# Altium integrated library TI_Logic_Specialty_Logic.IntLib: 2504 symbols (part 51 of 81)
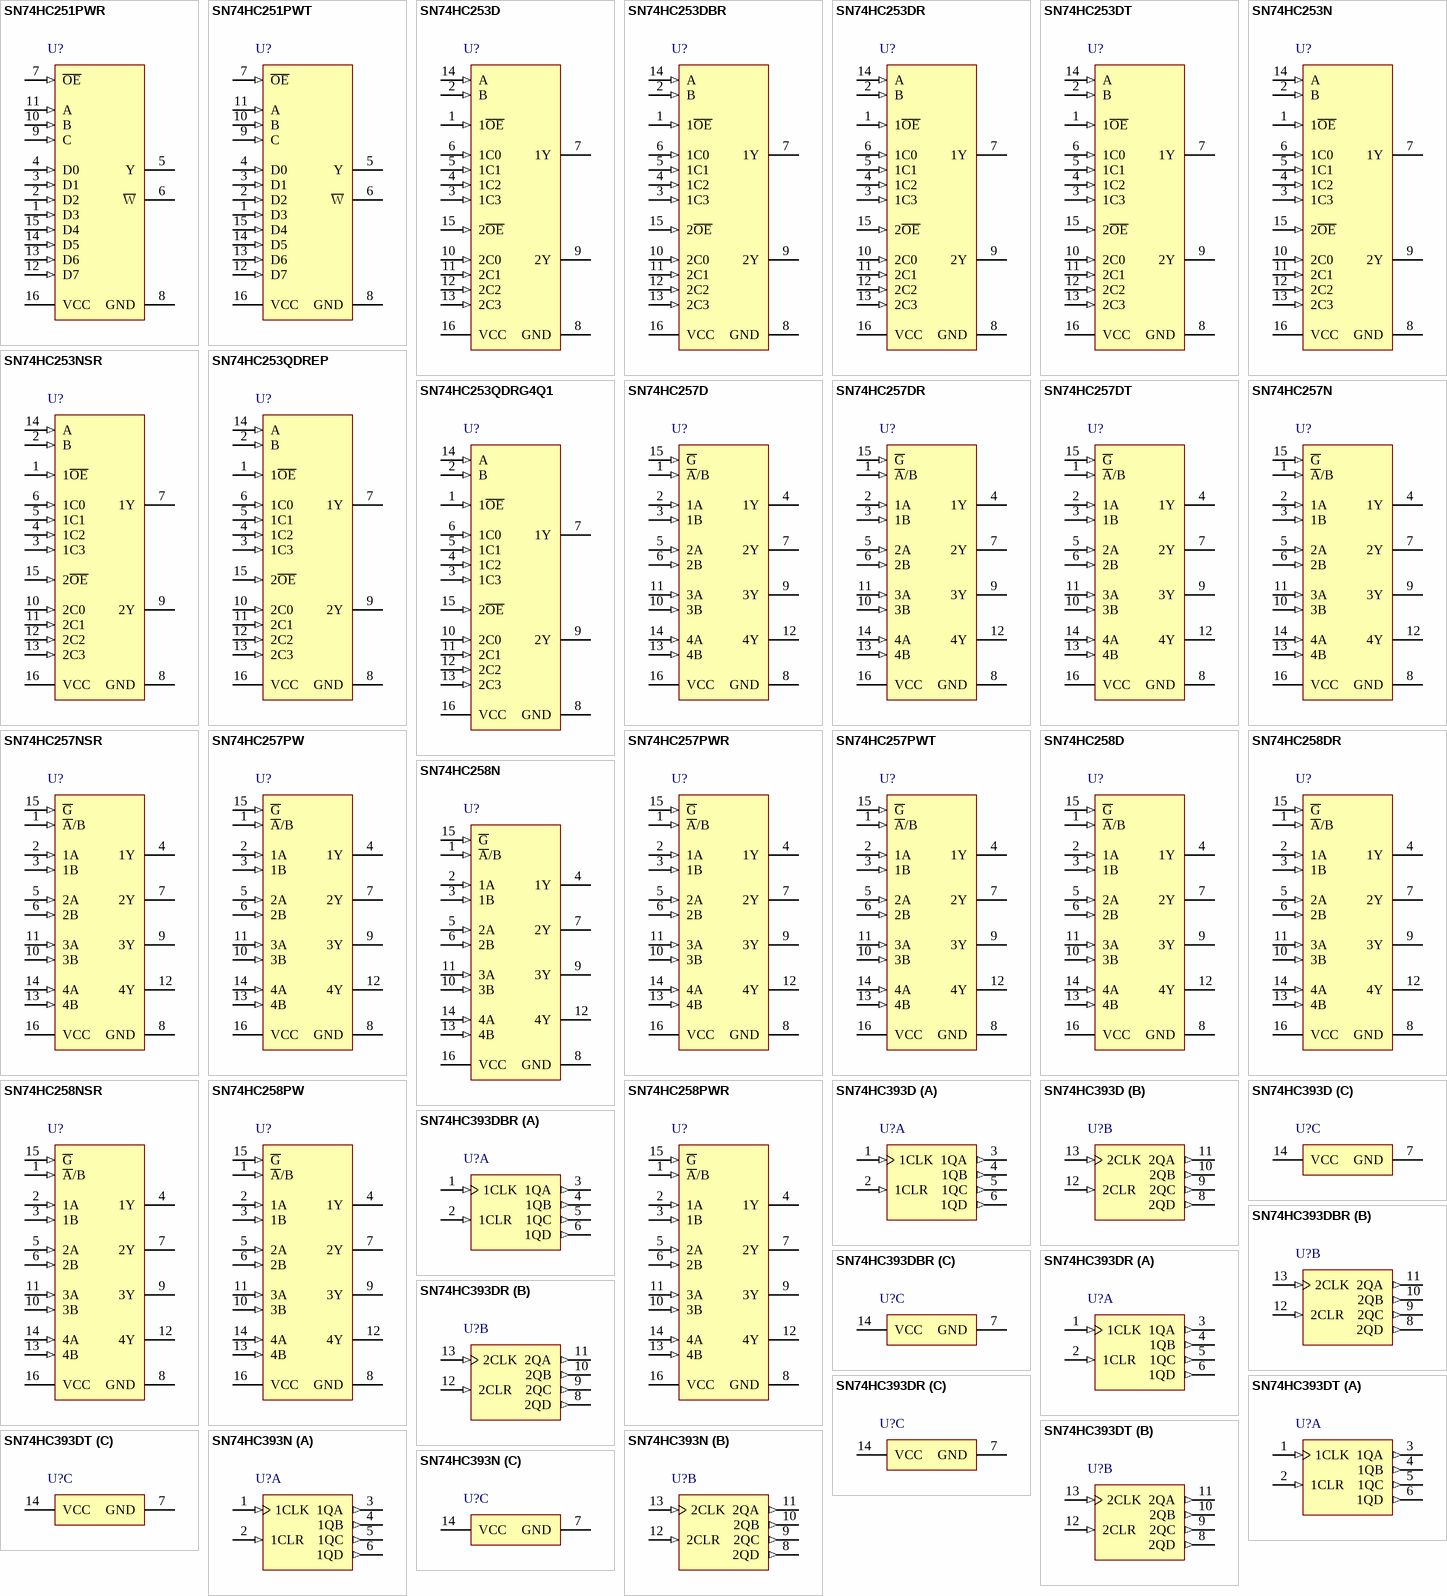
[diagram p154: symbols SN74HC251PWR to SN74HC393N]

## SN74HC393DR
designator U?
Dual 4-Bit Binary Counters, D0014A, LARGE T&R; Generic Part Number: SN74HC393; Manufacturer: Texas Instruments; PartNumber: SN74HC393DR; VCC(Min)(V): 2; VCC(Max)(V): 6; Output Type: CMOS; Inputs: 1; ICC @ Nom Voltage(Max)(mA): 0.08; Input Type: LVTTL/CMOS; Bits(#): 4; F @ Nom Voltage(Max)(Mhz): 28; Rating: Catalog; Technology Family: HC; Voltage(Nom)(V): 3.3,5; Schmitt Trigger: No; Output Drive (IOL/IOH)(Max)(mA): 5.2/-5.2; tpd @ Nom Voltage(Max)(ns): 62; DatasheetVersion: SCLS143D; PackageReference: D0014A; Supplier 1: Mouser; Supplier Part Number 1: 595-SN74HC393DR; Supplier 2: Digi-Key; Supplier Part Number 2: 296-14851-2-ND; Supplier 3: Digi-Key; Supplier Part Number 3: 296-14851-1-ND; Supplier 4: Digi-Key; Supplier Part Number 4: 296-14851-6-ND; Function: Counter; Operating Temperature Range(C): -40 to 85; Type: Binary; Code_JEDEC: MS-012; ComponentLink1Description: Manufacturer URL; ComponentLink1URL: http://www.ti.com/; ComponentLink2Description: Datasheet; ComponentLink2URL: http://www.ti.com/lit/ds/symlink/sn74hc393.pdf; ComponentLink3Description: Package Specification; ComponentLink3URL: http://www.ti.com/lit/ml/mpds177g/mpds177g.pdf
footprint D0014A_N (SOIC, 14-Leads, Body 8.75x4mm, Pitch 1.27mm, IPC Medium Density)
footprint D0014A_M (SOIC, 14-Leads, Body 8.75x4mm, Pitch 1.27mm, IPC Low Density)
footprint D0014A_L (SOIC, 14-Leads, Body 8.75x4mm, Pitch 1.27mm, IPC High Density)
part A pins: 1 1CLK (in), 2 1CLR (in), 3 1QA (out), 4 1QB (out), 5 1QC (out), 6 1QD (out)
part B pins: 8 2QD (out), 9 2QC (out), 10 2QB (out), 11 2QA (out), 12 2CLR (in), 13 2CLK (in)
part C pins: 7 GND (power), 14 VCC (power)

## SN74HC393DT
designator U?
Dual 4-Bit Binary Counters, D0014A, SMALL T&R; Generic Part Number: SN74HC393; Manufacturer: Texas Instruments; PartNumber: SN74HC393DT; VCC(Min)(V): 2; VCC(Max)(V): 6; Output Type: CMOS; Inputs: 1; ICC @ Nom Voltage(Max)(mA): 0.08; Input Type: LVTTL/CMOS; Bits(#): 4; F @ Nom Voltage(Max)(Mhz): 28; Rating: Catalog; Technology Family: HC; Voltage(Nom)(V): 3.3,5; Schmitt Trigger: No; Output Drive (IOL/IOH)(Max)(mA): 5.2/-5.2; tpd @ Nom Voltage(Max)(ns): 62; DatasheetVersion: SCLS143D; PackageReference: D0014A; Supplier 1: Mouser; Supplier Part Number 1: 595-SN74HC393DT; Supplier 2: Digi-Key; Supplier Part Number 2: SN74HC393DT-ND; Function: Counter; Operating Temperature Range(C): -40 to 85; Type: Binary; Code_JEDEC: MS-012; ComponentLink1Description: Manufacturer URL; ComponentLink1URL: http://www.ti.com/; ComponentLink2Description: Datasheet; ComponentLink2URL: http://www.ti.com/lit/ds/symlink/sn74hc393.pdf; ComponentLink3Description: Package Specification; ComponentLink3URL: http://www.ti.com/lit/ml/mpds177g/mpds177g.pdf
footprint D0014A_N (SOIC, 14-Leads, Body 8.75x4mm, Pitch 1.27mm, IPC Medium Density)
footprint D0014A_M (SOIC, 14-Leads, Body 8.75x4mm, Pitch 1.27mm, IPC Low Density)
footprint D0014A_L (SOIC, 14-Leads, Body 8.75x4mm, Pitch 1.27mm, IPC High Density)
part A pins: 1 1CLK (in), 2 1CLR (in), 3 1QA (out), 4 1QB (out), 5 1QC (out), 6 1QD (out)
part B pins: 8 2QD (out), 9 2QC (out), 10 2QB (out), 11 2QA (out), 12 2CLR (in), 13 2CLK (in)
part C pins: 7 GND (power), 14 VCC (power)

## SN74HC393N
designator U?
Dual 4-Bit Binary Counters, N0014A, TUBE; Generic Part Number: SN74HC393; Manufacturer: Texas Instruments; PartNumber: SN74HC393N; VCC(Min)(V): 2; VCC(Max)(V): 6; Output Type: CMOS; Inputs: 1; ICC @ Nom Voltage(Max)(mA): 0.08; Input Type: LVTTL/CMOS; Bits(#): 4; F @ Nom Voltage(Max)(Mhz): 28; Rating: Catalog; Technology Family: HC; Voltage(Nom)(V): 3.3,5; Schmitt Trigger: No; Output Drive (IOL/IOH)(Max)(mA): 5.2/-5.2; tpd @ Nom Voltage(Max)(ns): 62; DatasheetVersion: SCLS143D; PackageReference: N0014A; Supplier 1: Mouser; Supplier Part Number 1: 595-SN74HC393N; Supplier 2: Digi-Key; Supplier Part Number 2: 296-8319-5-ND; Function: Counter; Operating Temperature Range(C): -40 to 85; Type: Binary; Code_JEDEC: MS-001; ComponentLink1Description: Manufacturer URL; ComponentLink1URL: http://www.ti.com/; ComponentLink2Description: Datasheet; ComponentLink2URL: http://www.ti.com/lit/ds/symlink/sn74hc393.pdf; ComponentLink3Description: Package Specification; ComponentLink3URL: http://www.ti.com/lit/ml/mpdi002c/mpdi002c.pdf
footprint N0014A (DIP, 14-Leads, Body 19.7x6.6mm, Pitch 2.54mm)
part A pins: 1 1CLK (in), 2 1CLR (in), 3 1QA (out), 4 1QB (out), 5 1QC (out), 6 1QD (out)
part B pins: 8 2QD (out), 9 2QC (out), 10 2QB (out), 11 2QA (out), 12 2CLR (in), 13 2CLK (in)
part C pins: 7 GND (power), 14 VCC (power)

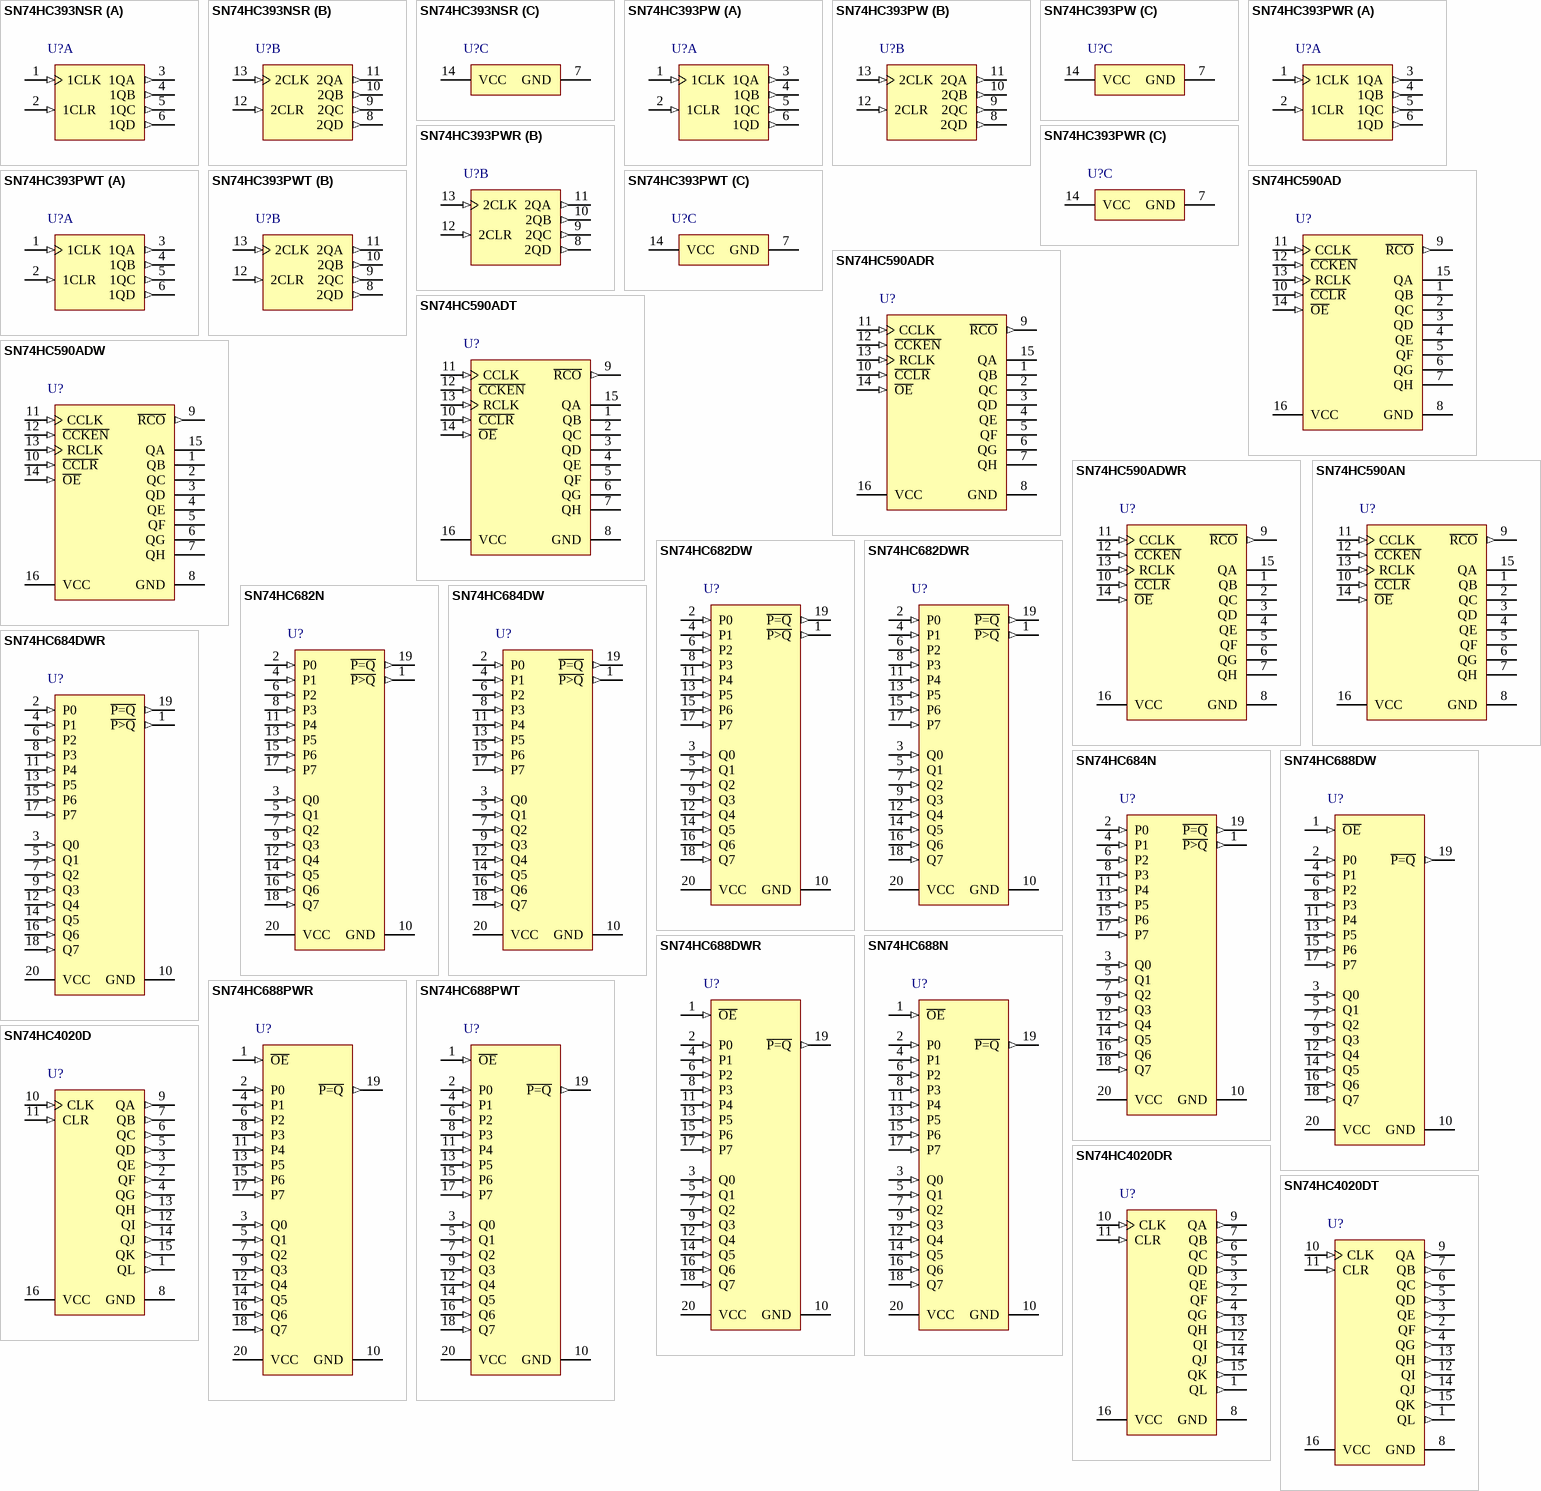
[diagram p64: symbols SN74HC393NSR to SN74HC4020DT]

## SN74HC393NSR
designator U?
Dual 4-Bit Binary Counters, NS0014A, LARGE T&R; Generic Part Number: SN74HC393; Manufacturer: Texas Instruments; PartNumber: SN74HC393NSR; VCC(Min)(V): 2; VCC(Max)(V): 6; Output Type: CMOS; Inputs: 1; ICC @ Nom Voltage(Max)(mA): 0.08; Input Type: LVTTL/CMOS; Bits(#): 4; F @ Nom Voltage(Max)(Mhz): 28; Rating: Catalog; Technology Family: HC; Voltage(Nom)(V): 3.3,5; Schmitt Trigger: No; Output Drive (IOL/IOH)(Max)(mA): 5.2/-5.2; tpd @ Nom Voltage(Max)(ns): 62; DatasheetVersion: SCLS143D; PackageReference: NS0014A; Supplier 1: Mouser; Supplier Part Number 1: 595-SN74HC393NSR; Supplier 2: Digi-Key; Supplier Part Number 2: 296-30014-2-ND; Supplier 3: Digi-Key; Supplier Part Number 3: 296-30014-1-ND; Supplier 4: Digi-Key; Supplier Part Number 4: 296-30014-6-ND; Function: Counter; Operating Temperature Range(C): -40 to 85; Type: Binary; ComponentLink1Description: Manufacturer URL; ComponentLink1URL: http://www.ti.com/; ComponentLink2Description: Datasheet; ComponentLink2URL: http://www.ti.com/lit/ds/symlink/sn74hc393.pdf; ComponentLink3Description: Package Specification; ComponentLink3URL: http://www.ti.com/lit/ml/msop002a/msop002a.pdf
footprint NS0014A_N (SOIC,14-Leads,Body 10.5x5.6mm,Pitch 1.27mm,IPC Medium Density)
footprint NS0014A_M (SOIC,14-Leads,Body 10.5x5.6mm,Pitch 1.27mm,IPC Low Density)
footprint NS0014A_L (SOIC,14-Leads,Body 10.5x5.6mm,Pitch 0.4mm,IPC High Density)
part A pins: 1 1CLK (in), 2 1CLR (in), 3 1QA (out), 4 1QB (out), 5 1QC (out), 6 1QD (out)
part B pins: 8 2QD (out), 9 2QC (out), 10 2QB (out), 11 2QA (out), 12 2CLR (in), 13 2CLK (in)
part C pins: 7 GND (power), 14 VCC (power)

## SN74HC393PW
designator U?
Dual 4-Bit Binary Counters, PW0014A, TUBE; Generic Part Number: SN74HC393; Manufacturer: Texas Instruments; PartNumber: SN74HC393PW; VCC(Min)(V): 2; VCC(Max)(V): 6; Output Type: CMOS; Inputs: 1; ICC @ Nom Voltage(Max)(mA): 0.08; Input Type: LVTTL/CMOS; Bits(#): 4; F @ Nom Voltage(Max)(Mhz): 28; Rating: Catalog; Technology Family: HC; Voltage(Nom)(V): 3.3,5; Schmitt Trigger: No; Output Drive (IOL/IOH)(Max)(mA): 5.2/-5.2; tpd @ Nom Voltage(Max)(ns): 62; DatasheetVersion: SCLS143D; PackageReference: PW0014A; Supplier 1: Mouser; Supplier Part Number 1: 595-SN74HC393PW; Supplier 2: Digi-Key; Supplier Part Number 2: 296-39205-5-ND; Function: Counter; Operating Temperature Range(C): -40 to 85; Type: Binary; Code_JEDEC: MO-153; ComponentLink1Description: Manufacturer URL; ComponentLink1URL: http://www.ti.com/; ComponentLink2Description: Datasheet; ComponentLink2URL: http://www.ti.com/lit/ds/symlink/sn74hc393.pdf; ComponentLink3Description: Package Specification; ComponentLink3URL: http://www.ti.com/lit/ml/mpds360/mpds360.pdf
footprint PW0014A_N (SOP, 14-Leads, Body 5.1x4.5mm, Pitch 0.65mm, IPC Medium Density)
footprint PW0014A_M (SOP, 14-Leads, Body 5.1x4.5mm, Pitch 0.65mm, IPC Low Density)
footprint PW0014A_L (SOP, 14-Leads, Body 5.1x4.5mm, Pitch 0.65mm, IPC High Density)
part A pins: 1 1CLK (in), 2 1CLR (in), 3 1QA (out), 4 1QB (out), 5 1QC (out), 6 1QD (out)
part B pins: 8 2QD (out), 9 2QC (out), 10 2QB (out), 11 2QA (out), 12 2CLR (in), 13 2CLK (in)
part C pins: 7 GND (power), 14 VCC (power)

## SN74HC393PWR
designator U?
Dual 4-Bit Binary Counters, PW0014A, LARGE T&R; Generic Part Number: SN74HC393; Manufacturer: Texas Instruments; PartNumber: SN74HC393PWR; VCC(Min)(V): 2; VCC(Max)(V): 6; Output Type: CMOS; Inputs: 1; ICC @ Nom Voltage(Max)(mA): 0.08; Input Type: LVTTL/CMOS; Bits(#): 4; F @ Nom Voltage(Max)(Mhz): 28; Rating: Catalog; Technology Family: HC; Voltage(Nom)(V): 3.3,5; Schmitt Trigger: No; Output Drive (IOL/IOH)(Max)(mA): 5.2/-5.2; tpd @ Nom Voltage(Max)(ns): 62; DatasheetVersion: SCLS143D; PackageReference: PW0014A; Supplier 1: Mouser; Supplier Part Number 1: 595-SN74HC393PWR; Supplier 2: Digi-Key; Supplier Part Number 2: 296-29252-2-ND; Supplier 3: Digi-Key; Supplier Part Number 3: 296-29252-1-ND; Supplier 4: Digi-Key; Supplier Part Number 4: 296-29252-6-ND; Function: Counter; Operating Temperature Range(C): -40 to 85; Type: Binary; Code_JEDEC: MO-153; ComponentLink1Description: Manufacturer URL; ComponentLink1URL: http://www.ti.com/; ComponentLink2Description: Datasheet; ComponentLink2URL: http://www.ti.com/lit/ds/symlink/sn74hc393.pdf; ComponentLink3Description: Package Specification; ComponentLink3URL: http://www.ti.com/lit/ml/mpds360/mpds360.pdf
footprint PW0014A_N (SOP, 14-Leads, Body 5.1x4.5mm, Pitch 0.65mm, IPC Medium Density)
footprint PW0014A_M (SOP, 14-Leads, Body 5.1x4.5mm, Pitch 0.65mm, IPC Low Density)
footprint PW0014A_L (SOP, 14-Leads, Body 5.1x4.5mm, Pitch 0.65mm, IPC High Density)
part A pins: 1 1CLK (in), 2 1CLR (in), 3 1QA (out), 4 1QB (out), 5 1QC (out), 6 1QD (out)
part B pins: 8 2QD (out), 9 2QC (out), 10 2QB (out), 11 2QA (out), 12 2CLR (in), 13 2CLK (in)
part C pins: 7 GND (power), 14 VCC (power)

## SN74HC393PWT
designator U?
Dual 4-Bit Binary Counters, PW0014A, SMALL T&R; Generic Part Number: SN74HC393; Manufacturer: Texas Instruments; PartNumber: SN74HC393PWT; VCC(Min)(V): 2; VCC(Max)(V): 6; Output Type: CMOS; Inputs: 1; ICC @ Nom Voltage(Max)(mA): 0.08; Input Type: LVTTL/CMOS; Bits(#): 4; F @ Nom Voltage(Max)(Mhz): 28; Rating: Catalog; Technology Family: HC; Voltage(Nom)(V): 3.3,5; Schmitt Trigger: No; Output Drive (IOL/IOH)(Max)(mA): 5.2/-5.2; tpd @ Nom Voltage(Max)(ns): 62; DatasheetVersion: SCLS143D; PackageReference: PW0014A; Supplier 1: Mouser; Supplier Part Number 1: 595-SN74HC393PWT; Supplier 2: Digi-Key; Supplier Part Number 2: 296-31809-2-ND; Supplier 3: Digi-Key; Supplier Part Number 3: 296-31809-1-ND; Supplier 4: Digi-Key; Supplier Part Number 4: 296-31809-6-ND; Function: Counter; Operating Temperature Range(C): -40 to 85; Type: Binary; Code_JEDEC: MO-153; ComponentLink1Description: Manufacturer URL; ComponentLink1URL: http://www.ti.com/; ComponentLink2Description: Datasheet; ComponentLink2URL: http://www.ti.com/lit/ds/symlink/sn74hc393.pdf; ComponentLink3Description: Package Specification; ComponentLink3URL: http://www.ti.com/lit/ml/mpds360/mpds360.pdf
footprint PW0014A_N (SOP, 14-Leads, Body 5.1x4.5mm, Pitch 0.65mm, IPC Medium Density)
footprint PW0014A_M (SOP, 14-Leads, Body 5.1x4.5mm, Pitch 0.65mm, IPC Low Density)
footprint PW0014A_L (SOP, 14-Leads, Body 5.1x4.5mm, Pitch 0.65mm, IPC High Density)
part A pins: 1 1CLK (in), 2 1CLR (in), 3 1QA (out), 4 1QB (out), 5 1QC (out), 6 1QD (out)
part B pins: 8 2QD (out), 9 2QC (out), 10 2QB (out), 11 2QA (out), 12 2CLR (in), 13 2CLK (in)
part C pins: 7 GND (power), 14 VCC (power)

## SN74HC590AD
designator U?
8-Bit Binary Counters With 3-State Output Registers, D0016A, TUBE; Generic Part Number: SN74HC590A; Manufacturer: Texas Instruments; PartNumber: SN74HC590AD; VCC(Min)(V): 2; VCC(Max)(V): 6; Output Type: CMOS; Inputs: 1; ICC @ Nom Voltage(Max)(mA): 0.08; Input Type: LVTTL/CMOS; Bits(#): 8; F @ Nom Voltage(Max)(Mhz): 28; Rating: Catalog; Technology Family: HC; Voltage(Nom)(V): 3.3,5; Schmitt Trigger: No; Output Drive (IOL/IOH)(Max)(mA): 7.8/-7.8; tpd @ Nom Voltage(Max)(ns): 38; DatasheetVersion: SCLS039F; PackageReference: D0016A; Supplier 1: Mouser; Supplier Part Number 1: 595-SN74HC590AD; Supplier 2: Digi-Key; Supplier Part Number 2: 296-8340-5-ND; Function: Counter; Operating Temperature Range(C): -40 to 85; Type: Binary; Code_JEDEC: MS-012 variation AC; ComponentLink1Description: Manufacturer URL; ComponentLink1URL: http://www.ti.com/; ComponentLink2Description: Datasheet; ComponentLink2URL: http://www.ti.com/lit/ds/symlink/sn74hc590a.pdf; ComponentLink3Description: Package Specification; ComponentLink3URL: http://www.ti.com/lit/ml/mpds178g/mpds178g.pdf
footprint D0016A_N (SOIC, 16-Leads, Body 10x4mm, Pitch 1.27mm, IPC Medium Density)
footprint D0016A_M (SOIC, 16-Leads, Body 10x4mm, Pitch 1.27mm, IPC Low Density)
footprint D0016A_L (SOIC, 16-Leads, Body 10x4mm, Pitch 1.27mm, IPC High Density)
pins: 1 QB (hiz), 2 QC (hiz), 3 QD (hiz), 4 QE (hiz), 5 QF (hiz), 6 QG (hiz), 7 QH (hiz), 8 GND (power), 9 ~{RCO} (out), 10 ~{CCLR} (in), 11 CCLK (in), 12 ~{CCKEN} (in), 13 RCLK (in), 14 ~{OE} (in), 15 QA (hiz), 16 VCC (power)

## SN74HC590ADR
designator U?
8-Bit Binary Counters With 3-State Output Registers, D0016A, LARGE T&R; Generic Part Number: SN74HC590A; Manufacturer: Texas Instruments; PartNumber: SN74HC590ADR; VCC(Min)(V): 2; VCC(Max)(V): 6; Output Type: CMOS; Inputs: 1; ICC @ Nom Voltage(Max)(mA): 0.08; Input Type: LVTTL/CMOS; Bits(#): 8; F @ Nom Voltage(Max)(Mhz): 28; Rating: Catalog; Technology Family: HC; Voltage(Nom)(V): 3.3,5; Schmitt Trigger: No; Output Drive (IOL/IOH)(Max)(mA): 7.8/-7.8; tpd @ Nom Voltage(Max)(ns): 38; DatasheetVersion: SCLS039F; PackageReference: D0016A; Supplier 1: Mouser; Supplier Part Number 1: 595-SN74HC590ADR; Supplier 2: Digi-Key; Supplier Part Number 2: 296-17132-2-ND; Supplier 3: Digi-Key; Supplier Part Number 3: 296-17132-1-ND; Supplier 4: Digi-Key; Supplier Part Number 4: 296-17132-6-ND; Function: Counter; Operating Temperature Range(C): -40 to 85; Type: Binary; Code_JEDEC: MS-012 variation AC; ComponentLink1Description: Manufacturer URL; ComponentLink1URL: http://www.ti.com/; ComponentLink2Description: Datasheet; ComponentLink2URL: http://www.ti.com/lit/ds/symlink/sn74hc590a.pdf; ComponentLink3Description: Package Specification; ComponentLink3URL: http://www.ti.com/lit/ml/mpds178g/mpds178g.pdf
footprint D0016A_N (SOIC, 16-Leads, Body 10x4mm, Pitch 1.27mm, IPC Medium Density)
footprint D0016A_M (SOIC, 16-Leads, Body 10x4mm, Pitch 1.27mm, IPC Low Density)
footprint D0016A_L (SOIC, 16-Leads, Body 10x4mm, Pitch 1.27mm, IPC High Density)
pins: 1 QB (hiz), 2 QC (hiz), 3 QD (hiz), 4 QE (hiz), 5 QF (hiz), 6 QG (hiz), 7 QH (hiz), 8 GND (power), 9 ~{RCO} (out), 10 ~{CCLR} (in), 11 CCLK (in), 12 ~{CCKEN} (in), 13 RCLK (in), 14 ~{OE} (in), 15 QA (hiz), 16 VCC (power)

## SN74HC590ADT
designator U?
8-Bit Binary Counters With 3-State Output Registers, D0016A, SMALL T&R; Generic Part Number: SN74HC590A; Manufacturer: Texas Instruments; PartNumber: SN74HC590ADT; VCC(Min)(V): 2; VCC(Max)(V): 6; Output Type: CMOS; Inputs: 1; ICC @ Nom Voltage(Max)(mA): 0.08; Input Type: LVTTL/CMOS; Bits(#): 8; F @ Nom Voltage(Max)(Mhz): 28; Rating: Catalog; Technology Family: HC; Voltage(Nom)(V): 3.3,5; Schmitt Trigger: No; Output Drive (IOL/IOH)(Max)(mA): 7.8/-7.8; tpd @ Nom Voltage(Max)(ns): 38; DatasheetVersion: SCLS039F; PackageReference: D0016A; Supplier 1: Mouser; Supplier Part Number 1: 595-SN74HC590ADT; Supplier 2: Digi-Key; Supplier Part Number 2: 296-31818-2-ND; Supplier 3: Digi-Key; Supplier Part Number 3: 296-31818-1-ND; Supplier 4: Digi-Key; Supplier Part Number 4: 296-31818-6-ND; Function: Counter; Operating Temperature Range(C): -40 to 85; Type: Binary; Code_JEDEC: MS-012 variation AC; ComponentLink1Description: Manufacturer URL; ComponentLink1URL: http://www.ti.com/; ComponentLink2Description: Datasheet; ComponentLink2URL: http://www.ti.com/lit/ds/symlink/sn74hc590a.pdf; ComponentLink3Description: Package Specification; ComponentLink3URL: http://www.ti.com/lit/ml/mpds178g/mpds178g.pdf
footprint D0016A_N (SOIC, 16-Leads, Body 10x4mm, Pitch 1.27mm, IPC Medium Density)
footprint D0016A_M (SOIC, 16-Leads, Body 10x4mm, Pitch 1.27mm, IPC Low Density)
footprint D0016A_L (SOIC, 16-Leads, Body 10x4mm, Pitch 1.27mm, IPC High Density)
pins: 1 QB (hiz), 2 QC (hiz), 3 QD (hiz), 4 QE (hiz), 5 QF (hiz), 6 QG (hiz), 7 QH (hiz), 8 GND (power), 9 ~{RCO} (out), 10 ~{CCLR} (in), 11 CCLK (in), 12 ~{CCKEN} (in), 13 RCLK (in), 14 ~{OE} (in), 15 QA (hiz), 16 VCC (power)

## SN74HC590ADW
designator U?
8-Bit Binary Counters With 3-State Output Registers, DW0016A, TUBE; Generic Part Number: SN74HC590A; Manufacturer: Texas Instruments; PartNumber: SN74HC590ADW; VCC(Min)(V): 2; VCC(Max)(V): 6; Output Type: CMOS; Inputs: 1; ICC @ Nom Voltage(Max)(mA): 0.08; Input Type: LVTTL/CMOS; Bits(#): 8; F @ Nom Voltage(Max)(Mhz): 28; Rating: Catalog; Technology Family: HC; Voltage(Nom)(V): 3.3,5; Schmitt Trigger: No; Output Drive (IOL/IOH)(Max)(mA): 7.8/-7.8; tpd @ Nom Voltage(Max)(ns): 38; DatasheetVersion: SCLS039F; PackageReference: DW0016A; Supplier 1: Mouser; Supplier Part Number 1: 595-SN74HC590ADW; Supplier 2: Digi-Key; Supplier Part Number 2: 296-8341-5-ND; Function: Counter; Operating Temperature Range(C): -40 to 85; Type: Binary; Code_JEDEC: MS-013 variation AA; ComponentLink1Description: Manufacturer URL; ComponentLink1URL: http://www.ti.com/; ComponentLink2Description: Datasheet; ComponentLink2URL: http://www.ti.com/lit/ds/symlink/sn74hc590a.pdf; ComponentLink3Description: Package Specification; ComponentLink3URL: http://www.ti.com/lit/ml/msoi003g/msoi003g.pdf
footprint DW0016A_N (SOIC, 16-Leads, Body 10.5x7.6mm, Pitch 1.27mm, IPC Medium Density)
footprint DW0016A_M (SOIC, 16-Leads, Body 10.5x7.6mm, Pitch 1.27mm, IPC Low Density)
footprint DW0016A_L (SOIC, 16-Leads, Body 10.5x7.6mm, Pitch 1.27mm, IPC High Density)
pins: 1 QB (hiz), 2 QC (hiz), 3 QD (hiz), 4 QE (hiz), 5 QF (hiz), 6 QG (hiz), 7 QH (hiz), 8 GND (power), 9 ~{RCO} (out), 10 ~{CCLR} (in), 11 CCLK (in), 12 ~{CCKEN} (in), 13 RCLK (in), 14 ~{OE} (in), 15 QA (hiz), 16 VCC (power)

## SN74HC590ADWR
designator U?
8-Bit Binary Counters With 3-State Output Registers, DW0016A, LARGE T&R; Generic Part Number: SN74HC590A; Manufacturer: Texas Instruments; PartNumber: SN74HC590ADWR; VCC(Min)(V): 2; VCC(Max)(V): 6; Output Type: CMOS; Inputs: 1; ICC @ Nom Voltage(Max)(mA): 0.08; Input Type: LVTTL/CMOS; Bits(#): 8; F @ Nom Voltage(Max)(Mhz): 28; Rating: Catalog; Technology Family: HC; Voltage(Nom)(V): 3.3,5; Schmitt Trigger: No; Output Drive (IOL/IOH)(Max)(mA): 7.8/-7.8; tpd @ Nom Voltage(Max)(ns): 38; DatasheetVersion: SCLS039F; PackageReference: DW0016A; Supplier 1: Mouser; Supplier Part Number 1: 595-SN74HC590ADWR; Supplier 2: Digi-Key; Supplier Part Number 2: 296-14856-2-ND; Supplier 3: Digi-Key; Supplier Part Number 3: 296-14856-1-ND; Supplier 4: Digi-Key; Supplier Part Number 4: 296-14856-6-ND; Function: Counter; Operating Temperature Range(C): -40 to 85; Type: Binary; Code_JEDEC: MS-013 variation AA; ComponentLink1Description: Manufacturer URL; ComponentLink1URL: http://www.ti.com/; ComponentLink2Description: Datasheet; ComponentLink2URL: http://www.ti.com/lit/ds/symlink/sn74hc590a.pdf; ComponentLink3Description: Package Specification; ComponentLink3URL: http://www.ti.com/lit/ml/msoi003g/msoi003g.pdf
footprint DW0016A_N (SOIC, 16-Leads, Body 10.5x7.6mm, Pitch 1.27mm, IPC Medium Density)
footprint DW0016A_M (SOIC, 16-Leads, Body 10.5x7.6mm, Pitch 1.27mm, IPC Low Density)
footprint DW0016A_L (SOIC, 16-Leads, Body 10.5x7.6mm, Pitch 1.27mm, IPC High Density)
pins: 1 QB (hiz), 2 QC (hiz), 3 QD (hiz), 4 QE (hiz), 5 QF (hiz), 6 QG (hiz), 7 QH (hiz), 8 GND (power), 9 ~{RCO} (out), 10 ~{CCLR} (in), 11 CCLK (in), 12 ~{CCKEN} (in), 13 RCLK (in), 14 ~{OE} (in), 15 QA (hiz), 16 VCC (power)

## SN74HC590AN
designator U?
8-Bit Binary Counters With 3-State Output Registers, N0016A, TUBE; Generic Part Number: SN74HC590A; Manufacturer: Texas Instruments; PartNumber: SN74HC590AN; VCC(Min)(V): 2; VCC(Max)(V): 6; Output Type: CMOS; Inputs: 1; ICC @ Nom Voltage(Max)(mA): 0.08; Input Type: LVTTL/CMOS; Bits(#): 8; F @ Nom Voltage(Max)(Mhz): 28; Rating: Catalog; Technology Family: HC; Voltage(Nom)(V): 3.3,5; Schmitt Trigger: No; Output Drive (IOL/IOH)(Max)(mA): 7.8/-7.8; tpd @ Nom Voltage(Max)(ns): 38; DatasheetVersion: SCLS039F; PackageReference: N0016A; Supplier 1: Mouser; Supplier Part Number 1: 595-SN74HC590AN; Supplier 2: Digi-Key; Supplier Part Number 2: 296-1599-5-ND; Function: Counter; Operating Temperature Range(C): -40 to 85; Type: Binary; Code_JEDEC: MS-001; ComponentLink1Description: Manufacturer URL; ComponentLink1URL: http://www.ti.com/; ComponentLink2Description: Datasheet; ComponentLink2URL: http://www.ti.com/lit/ds/symlink/sn74hc590a.pdf; ComponentLink3Description: Package Specification; ComponentLink3URL: http://www.ti.com/lit/ml/mpdi002c/mpdi002c.pdf
footprint N0016A (DIP, 16-Leads, Body 19.7x6.6mm, Pitch 2.54mm)
pins: 1 QB (hiz), 2 QC (hiz), 3 QD (hiz), 4 QE (hiz), 5 QF (hiz), 6 QG (hiz), 7 QH (hiz), 8 GND (power), 9 ~{RCO} (out), 10 ~{CCLR} (in), 11 CCLK (in), 12 ~{CCKEN} (in), 13 RCLK (in), 14 ~{OE} (in), 15 QA (hiz), 16 VCC (power)

## SN74HC682DW
designator U?
8-Bit Identity/Magnitude Comparators, DW0020A, TUBE; Generic Part Number: SN74HC682; Manufacturer: Texas Instruments; PartNumber: SN74HC682DW; VCC(Min)(V): 2; VCC(Max)(V): 6; Output Type: CMOS; ICC @ Nom Voltage(Max)(mA): 1.1; Bits(#): 8; F @ Nom Voltage(Max)(Mhz): 70; Rating: Catalog; Technology Family: HC; Schmitt Trigger: No; Output Drive (IOL/IOH)(Max)(mA): 5.2/-5.2; tpd @ Nom Voltage(Max)(ns): 58; DatasheetVersion: SCLS018D; PackageReference: DW0020A; Supplier 1: Mouser; Supplier Part Number 1: 595-SN74HC682DW; Supplier 2: Digi-Key; Supplier Part Number 2: 296-33943-5-ND; Input Type: CMOS; Operating Temperature Range(C): -40 to 85; Voltage(Nom)(V): 6; ComponentLink1Description: Manufacturer URL; ComponentLink1URL: http://www.ti.com/; ComponentLink2Description: Datasheet; ComponentLink2URL: http://www.ti.com/lit/ds/symlink/sn74hc682.pdf
footprint DW0020A_N (SOIC, 20-Leads, Body 13x7.6mm, Pitch 1.27mm, IPC Medium Density)
footprint DW0020A_M (SOIC, 20-Leads, Body 13x7.6mm, Pitch 1.27mm, IPC Low Density)
footprint DW0020A_L (SOIC, 20-Leads, Body 13x7.6mm, Pitch 1.27mm, IPC High Density)
pins: 1 ~{P>Q} (out), 2 P0 (in), 3 Q0 (in), 4 P1 (in), 5 Q1 (in), 6 P2 (in), 7 Q2 (in), 8 P3 (in), 9 Q3 (in), 10 GND (power), 11 P4 (in), 12 Q4 (in), 13 P5 (in), 14 Q5 (in), 15 P6 (in), 16 Q6 (in), 17 P7 (in), 18 Q7 (in), 19 ~{P=Q} (out), 20 VCC (power)

## SN74HC682DWR
designator U?
8-Bit Identity/Magnitude Comparators, DW0020A, LARGE T&R; Generic Part Number: SN74HC682; Manufacturer: Texas Instruments; PartNumber: SN74HC682DWR; VCC(Min)(V): 2; VCC(Max)(V): 6; Output Type: CMOS; ICC @ Nom Voltage(Max)(mA): 1.1; Bits(#): 8; F @ Nom Voltage(Max)(Mhz): 70; Rating: Catalog; Technology Family: HC; Schmitt Trigger: No; Output Drive (IOL/IOH)(Max)(mA): 5.2/-5.2; tpd @ Nom Voltage(Max)(ns): 58; DatasheetVersion: SCLS018D; PackageReference: DW0020A; Supplier 1: Mouser; Supplier Part Number 1: 595-SN74HC682DWR; Supplier 2: Digi-Key; Supplier Part Number 2: 296-8356-2-ND; Supplier 3: Digi-Key; Supplier Part Number 3: 296-8356-1-ND; Supplier 4: Digi-Key; Supplier Part Number 4: 296-8356-6-ND; Input Type: CMOS; Operating Temperature Range(C): -40 to 85; Voltage(Nom)(V): 6; ComponentLink1Description: Manufacturer URL; ComponentLink1URL: http://www.ti.com/; ComponentLink2Description: Datasheet; ComponentLink2URL: http://www.ti.com/lit/ds/symlink/sn74hc682.pdf
footprint DW0020A_N (SOIC, 20-Leads, Body 13x7.6mm, Pitch 1.27mm, IPC Medium Density)
footprint DW0020A_M (SOIC, 20-Leads, Body 13x7.6mm, Pitch 1.27mm, IPC Low Density)
footprint DW0020A_L (SOIC, 20-Leads, Body 13x7.6mm, Pitch 1.27mm, IPC High Density)
pins: 1 ~{P>Q} (out), 2 P0 (in), 3 Q0 (in), 4 P1 (in), 5 Q1 (in), 6 P2 (in), 7 Q2 (in), 8 P3 (in), 9 Q3 (in), 10 GND (power), 11 P4 (in), 12 Q4 (in), 13 P5 (in), 14 Q5 (in), 15 P6 (in), 16 Q6 (in), 17 P7 (in), 18 Q7 (in), 19 ~{P=Q} (out), 20 VCC (power)

## SN74HC682N
designator U?
8-Bit Identity/Magnitude Comparators, N0020A, TUBE; Generic Part Number: SN74HC682; Manufacturer: Texas Instruments; PartNumber: SN74HC682N; VCC(Min)(V): 2; VCC(Max)(V): 6; Output Type: CMOS; ICC @ Nom Voltage(Max)(mA): 1.1; Bits(#): 8; F @ Nom Voltage(Max)(Mhz): 70; Rating: Catalog; Technology Family: HC; Schmitt Trigger: No; Output Drive (IOL/IOH)(Max)(mA): 5.2/-5.2; tpd @ Nom Voltage(Max)(ns): 58; DatasheetVersion: SCLS018D; PackageReference: N0020A; Supplier 1: Mouser; Supplier Part Number 1: 595-SN74HC682N; Supplier 2: Digi-Key; Supplier Part Number 2: 296-8357-5-ND; Input Type: CMOS; Operating Temperature Range(C): -40 to 85; Voltage(Nom)(V): 6; ComponentLink1Description: Manufacturer URL; ComponentLink1URL: http://www.ti.com/; ComponentLink2Description: Datasheet; ComponentLink2URL: http://www.ti.com/lit/ds/symlink/sn74hc682.pdf
footprint N0020A (DIP, 20-Leads, Body 26.9x6.6mm, Pitch 2.54mm)
pins: 1 ~{P>Q} (out), 2 P0 (in), 3 Q0 (in), 4 P1 (in), 5 Q1 (in), 6 P2 (in), 7 Q2 (in), 8 P3 (in), 9 Q3 (in), 10 GND (power), 11 P4 (in), 12 Q4 (in), 13 P5 (in), 14 Q5 (in), 15 P6 (in), 16 Q6 (in), 17 P7 (in), 18 Q7 (in), 19 ~{P=Q} (out), 20 VCC (power)

## SN74HC684DW
designator U?
8-Bit Identity/Magnitude Comparators, DW0020A, TUBE; Generic Part Number: SN74HC684; Manufacturer: Texas Instruments; PartNumber: SN74HC684DW; VCC(Min)(V): 2; VCC(Max)(V): 6; Output Type: CMOS; ICC @ Nom Voltage(Max)(mA): 0.08; Bits(#): 8; F @ Nom Voltage(Max)(Mhz): 70; Rating: Catalog; Technology Family: HC; Schmitt Trigger: No; Output Drive (IOL/IOH)(Max)(mA): 5.2/-5.2; tpd @ Nom Voltage(Max)(ns): 58; DatasheetVersion: SCLS340B; PackageReference: DW0020A; Supplier 1: Mouser; Supplier Part Number 1: 595-SN74HC684DW; Supplier 2: Digi-Key; Supplier Part Number 2: 296-8358-5-ND; Input Type: CMOS; Operating Temperature Range(C): -40 to 85; Voltage(Nom)(V): 6; ComponentLink1Description: Manufacturer URL; ComponentLink1URL: http://www.ti.com/; ComponentLink2Description: Datasheet; ComponentLink2URL: http://www.ti.com/lit/ds/symlink/sn74hc684.pdf
footprint DW0020A_N (SOIC, 20-Leads, Body 13x7.6mm, Pitch 1.27mm, IPC Medium Density)
footprint DW0020A_M (SOIC, 20-Leads, Body 13x7.6mm, Pitch 1.27mm, IPC Low Density)
footprint DW0020A_L (SOIC, 20-Leads, Body 13x7.6mm, Pitch 1.27mm, IPC High Density)
pins: 1 ~{P>Q} (out), 2 P0 (in), 3 Q0 (in), 4 P1 (in), 5 Q1 (in), 6 P2 (in), 7 Q2 (in), 8 P3 (in), 9 Q3 (in), 10 GND (power), 11 P4 (in), 12 Q4 (in), 13 P5 (in), 14 Q5 (in), 15 P6 (in), 16 Q6 (in), 17 P7 (in), 18 Q7 (in), 19 ~{P=Q} (out), 20 VCC (power)

## SN74HC684DWR
designator U?
8-Bit Identity/Magnitude Comparators, DW0020A, LARGE T&R; Generic Part Number: SN74HC684; Manufacturer: Texas Instruments; PartNumber: SN74HC684DWR; VCC(Min)(V): 2; VCC(Max)(V): 6; Output Type: CMOS; ICC @ Nom Voltage(Max)(mA): 0.08; Bits(#): 8; F @ Nom Voltage(Max)(Mhz): 70; Rating: Catalog; Technology Family: HC; Schmitt Trigger: No; Output Drive (IOL/IOH)(Max)(mA): 5.2/-5.2; tpd @ Nom Voltage(Max)(ns): 58; DatasheetVersion: SCLS340B; PackageReference: DW0020A; Supplier 1: Mouser; Supplier Part Number 1: 595-SN74HC684DWR; Supplier 2: Digi-Key; Supplier Part Number 2: SN74HC684DWR-ND; Input Type: CMOS; Operating Temperature Range(C): -40 to 85; Voltage(Nom)(V): 6; ComponentLink1Description: Manufacturer URL; ComponentLink1URL: http://www.ti.com/; ComponentLink2Description: Datasheet; ComponentLink2URL: http://www.ti.com/lit/ds/symlink/sn74hc684.pdf
footprint DW0020A_N (SOIC, 20-Leads, Body 13x7.6mm, Pitch 1.27mm, IPC Medium Density)
footprint DW0020A_M (SOIC, 20-Leads, Body 13x7.6mm, Pitch 1.27mm, IPC Low Density)
footprint DW0020A_L (SOIC, 20-Leads, Body 13x7.6mm, Pitch 1.27mm, IPC High Density)
pins: 1 ~{P>Q} (out), 2 P0 (in), 3 Q0 (in), 4 P1 (in), 5 Q1 (in), 6 P2 (in), 7 Q2 (in), 8 P3 (in), 9 Q3 (in), 10 GND (power), 11 P4 (in), 12 Q4 (in), 13 P5 (in), 14 Q5 (in), 15 P6 (in), 16 Q6 (in), 17 P7 (in), 18 Q7 (in), 19 ~{P=Q} (out), 20 VCC (power)

## SN74HC684N
designator U?
8-Bit Identity/Magnitude Comparators, N0020A, TUBE; Generic Part Number: SN74HC684; Manufacturer: Texas Instruments; PartNumber: SN74HC684N; VCC(Min)(V): 2; VCC(Max)(V): 6; Output Type: CMOS; ICC @ Nom Voltage(Max)(mA): 0.08; Bits(#): 8; F @ Nom Voltage(Max)(Mhz): 70; Rating: Catalog; Technology Family: HC; Schmitt Trigger: No; Output Drive (IOL/IOH)(Max)(mA): 5.2/-5.2; tpd @ Nom Voltage(Max)(ns): 58; DatasheetVersion: SCLS340B; PackageReference: N0020A; Supplier 1: Mouser; Supplier Part Number 1: 595-SN74HC684N; Supplier 2: Digi-Key; Supplier Part Number 2: 296-8359-5-ND; Input Type: CMOS; Operating Temperature Range(C): -40 to 85; Voltage(Nom)(V): 6; ComponentLink1Description: Manufacturer URL; ComponentLink1URL: http://www.ti.com/; ComponentLink2Description: Datasheet; ComponentLink2URL: http://www.ti.com/lit/ds/symlink/sn74hc684.pdf
footprint N0020A (DIP, 20-Leads, Body 26.9x6.6mm, Pitch 2.54mm)
pins: 1 ~{P>Q} (out), 2 P0 (in), 3 Q0 (in), 4 P1 (in), 5 Q1 (in), 6 P2 (in), 7 Q2 (in), 8 P3 (in), 9 Q3 (in), 10 GND (power), 11 P4 (in), 12 Q4 (in), 13 P5 (in), 14 Q5 (in), 15 P6 (in), 16 Q6 (in), 17 P7 (in), 18 Q7 (in), 19 ~{P=Q} (out), 20 VCC (power)

## SN74HC688DW
designator U?
8-Bit Identity/Magnitude Comparators (P=Q) with Enable, DW0020A, TUBE; Generic Part Number: SN74HC688; Manufacturer: Texas Instruments; PartNumber: SN74HC688DW; VCC(Min)(V): 2; VCC(Max)(V): 6; Output Type: CMOS; ICC @ Nom Voltage(Max)(mA): 0.08; Bits(#): 8; F @ Nom Voltage(Max)(Mhz): 70; Rating: Catalog; Technology Family: HC; Schmitt Trigger: No; Output Drive (IOL/IOH)(Max)(mA): 5.2/-5.2; tpd @ Nom Voltage(Max)(ns): 45; DatasheetVersion: SCLS010D; PackageReference: DW0020A; Supplier 1: Mouser; Supplier Part Number 1: 595-SN74HC688DW; Supplier 2: Digi-Key; Supplier Part Number 2: 296-8360-5-ND; Input Type: CMOS; Operating Temperature Range(C): -40 to 85; Voltage(Nom)(V): 6; ComponentLink1Description: Manufacturer URL; ComponentLink1URL: http://www.ti.com/; ComponentLink2Description: Datasheet; ComponentLink2URL: http://www.ti.com/lit/ds/symlink/sn74hc688.pdf
footprint DW0020A_N (SOIC, 20-Leads, Body 13x7.6mm, Pitch 1.27mm, IPC Medium Density)
footprint DW0020A_M (SOIC, 20-Leads, Body 13x7.6mm, Pitch 1.27mm, IPC Low Density)
footprint DW0020A_L (SOIC, 20-Leads, Body 13x7.6mm, Pitch 1.27mm, IPC High Density)
pins: 1 ~{OE} (in), 2 P0 (in), 3 Q0 (in), 4 P1 (in), 5 Q1 (in), 6 P2 (in), 7 Q2 (in), 8 P3 (in), 9 Q3 (in), 10 GND (power), 11 P4 (in), 12 Q4 (in), 13 P5 (in), 14 Q5 (in), 15 P6 (in), 16 Q6 (in), 17 P7 (in), 18 Q7 (in), 19 ~{P=Q} (out), 20 VCC (power)

## SN74HC688DWR
designator U?
8-Bit Identity/Magnitude Comparators (P=Q) with Enable, DW0020A, LARGE T&R; Generic Part Number: SN74HC688; Manufacturer: Texas Instruments; PartNumber: SN74HC688DWR; VCC(Min)(V): 2; VCC(Max)(V): 6; Output Type: CMOS; ICC @ Nom Voltage(Max)(mA): 0.08; Bits(#): 8; F @ Nom Voltage(Max)(Mhz): 70; Rating: Catalog; Technology Family: HC; Schmitt Trigger: No; Output Drive (IOL/IOH)(Max)(mA): 5.2/-5.2; tpd @ Nom Voltage(Max)(ns): 45; DatasheetVersion: SCLS010D; PackageReference: DW0020A; Supplier 1: Mouser; Supplier Part Number 1: 595-SN74HC688DWR; Supplier 2: Digi-Key; Supplier Part Number 2: 296-34867-2-ND; Supplier 3: Digi-Key; Supplier Part Number 3: 296-34867-1-ND; Supplier 4: Digi-Key; Supplier Part Number 4: 296-34867-6-ND; Input Type: CMOS; Operating Temperature Range(C): -40 to 85; Voltage(Nom)(V): 6; ComponentLink1Description: Manufacturer URL; ComponentLink1URL: http://www.ti.com/; ComponentLink2Description: Datasheet; ComponentLink2URL: http://www.ti.com/lit/ds/symlink/sn74hc688.pdf
footprint DW0020A_N (SOIC, 20-Leads, Body 13x7.6mm, Pitch 1.27mm, IPC Medium Density)
footprint DW0020A_M (SOIC, 20-Leads, Body 13x7.6mm, Pitch 1.27mm, IPC Low Density)
footprint DW0020A_L (SOIC, 20-Leads, Body 13x7.6mm, Pitch 1.27mm, IPC High Density)
pins: 1 ~{OE} (in), 2 P0 (in), 3 Q0 (in), 4 P1 (in), 5 Q1 (in), 6 P2 (in), 7 Q2 (in), 8 P3 (in), 9 Q3 (in), 10 GND (power), 11 P4 (in), 12 Q4 (in), 13 P5 (in), 14 Q5 (in), 15 P6 (in), 16 Q6 (in), 17 P7 (in), 18 Q7 (in), 19 ~{P=Q} (out), 20 VCC (power)

## SN74HC688N
designator U?
8-Bit Identity/Magnitude Comparators (P=Q) with Enable, N0020A, TUBE; Generic Part Number: SN74HC688; Manufacturer: Texas Instruments; PartNumber: SN74HC688N; VCC(Min)(V): 2; VCC(Max)(V): 6; Output Type: CMOS; ICC @ Nom Voltage(Max)(mA): 0.08; Bits(#): 8; F @ Nom Voltage(Max)(Mhz): 70; Rating: Catalog; Technology Family: HC; Schmitt Trigger: No; Output Drive (IOL/IOH)(Max)(mA): 5.2/-5.2; tpd @ Nom Voltage(Max)(ns): 45; DatasheetVersion: SCLS010D; PackageReference: N0020A; Supplier 1: Mouser; Supplier Part Number 1: 595-SN74HC688N; Supplier 2: Digi-Key; Supplier Part Number 2: 296-8361-5-ND; Input Type: CMOS; Operating Temperature Range(C): -40 to 85; Voltage(Nom)(V): 6; ComponentLink1Description: Manufacturer URL; ComponentLink1URL: http://www.ti.com/; ComponentLink2Description: Datasheet; ComponentLink2URL: http://www.ti.com/lit/ds/symlink/sn74hc688.pdf
footprint N0020A (DIP, 20-Leads, Body 26.9x6.6mm, Pitch 2.54mm)
pins: 1 ~{OE} (in), 2 P0 (in), 3 Q0 (in), 4 P1 (in), 5 Q1 (in), 6 P2 (in), 7 Q2 (in), 8 P3 (in), 9 Q3 (in), 10 GND (power), 11 P4 (in), 12 Q4 (in), 13 P5 (in), 14 Q5 (in), 15 P6 (in), 16 Q6 (in), 17 P7 (in), 18 Q7 (in), 19 ~{P=Q} (out), 20 VCC (power)

## SN74HC688PWR
designator U?
8-Bit Identity/Magnitude Comparators (P=Q) with Enable, PW0020A, LARGE T&R; Generic Part Number: SN74HC688; Manufacturer: Texas Instruments; PartNumber: SN74HC688PWR; VCC(Min)(V): 2; VCC(Max)(V): 6; Output Type: CMOS; ICC @ Nom Voltage(Max)(mA): 0.08; Bits(#): 8; F @ Nom Voltage(Max)(Mhz): 70; Rating: Catalog; Technology Family: HC; Schmitt Trigger: No; Output Drive (IOL/IOH)(Max)(mA): 5.2/-5.2; tpd @ Nom Voltage(Max)(ns): 45; DatasheetVersion: SCLS010D; PackageReference: PW0020A; Supplier 1: Mouser; Supplier Part Number 1: 595-SN74HC688PWR; Supplier 2: Digi-Key; Supplier Part Number 2: 296-8362-2-ND; Supplier 3: Digi-Key; Supplier Part Number 3: 296-8362-1-ND; Supplier 4: Digi-Key; Supplier Part Number 4: 296-8362-6-ND; Input Type: CMOS; Operating Temperature Range(C): -40 to 85; Voltage(Nom)(V): 6; ComponentLink1Description: Manufacturer URL; ComponentLink1URL: http://www.ti.com/; ComponentLink2Description: Datasheet; ComponentLink2URL: http://www.ti.com/lit/ds/symlink/sn74hc688.pdf
footprint PW0020A_N (SOP, 20-Leads, Body 6.6x4.5mm, Pitch 0.65mm, IPC Medium Density)
footprint PW0020A_M (SOP, 20-Leads, Body 6.6x4.5mm, Pitch 0.65mm, IPC Low Density)
footprint PW0020A_L (SOP, 20-Leads, Body 6.6x4.5mm, Pitch 0.65mm, IPC High Density)
pins: 1 ~{OE} (in), 2 P0 (in), 3 Q0 (in), 4 P1 (in), 5 Q1 (in), 6 P2 (in), 7 Q2 (in), 8 P3 (in), 9 Q3 (in), 10 GND (power), 11 P4 (in), 12 Q4 (in), 13 P5 (in), 14 Q5 (in), 15 P6 (in), 16 Q6 (in), 17 P7 (in), 18 Q7 (in), 19 ~{P=Q} (out), 20 VCC (power)

## SN74HC688PWT
designator U?
8-Bit Identity/Magnitude Comparators (P=Q) with Enable, PW0020A, SMALL T&R; Generic Part Number: SN74HC688; Manufacturer: Texas Instruments; PartNumber: SN74HC688PWT; VCC(Min)(V): 2; VCC(Max)(V): 6; Output Type: CMOS; ICC @ Nom Voltage(Max)(mA): 0.08; Bits(#): 8; F @ Nom Voltage(Max)(Mhz): 70; Rating: Catalog; Technology Family: HC; Schmitt Trigger: No; Output Drive (IOL/IOH)(Max)(mA): 5.2/-5.2; tpd @ Nom Voltage(Max)(ns): 45; DatasheetVersion: SCLS010D; PackageReference: PW0020A; Supplier 1: Mouser; Supplier Part Number 1: 595-SN74HC688PWT; Supplier 2: Digi-Key; Supplier Part Number 2: 296-31824-2-ND; Supplier 3: Digi-Key; Supplier Part Number 3: 296-31824-1-ND; Supplier 4: Digi-Key; Supplier Part Number 4: 296-31824-6-ND; Input Type: CMOS; Operating Temperature Range(C): -40 to 85; Voltage(Nom)(V): 6; ComponentLink1Description: Manufacturer URL; ComponentLink1URL: http://www.ti.com/; ComponentLink2Description: Datasheet; ComponentLink2URL: http://www.ti.com/lit/ds/symlink/sn74hc688.pdf
footprint PW0020A_N (SOP, 20-Leads, Body 6.6x4.5mm, Pitch 0.65mm, IPC Medium Density)
footprint PW0020A_M (SOP, 20-Leads, Body 6.6x4.5mm, Pitch 0.65mm, IPC Low Density)
footprint PW0020A_L (SOP, 20-Leads, Body 6.6x4.5mm, Pitch 0.65mm, IPC High Density)
pins: 1 ~{OE} (in), 2 P0 (in), 3 Q0 (in), 4 P1 (in), 5 Q1 (in), 6 P2 (in), 7 Q2 (in), 8 P3 (in), 9 Q3 (in), 10 GND (power), 11 P4 (in), 12 Q4 (in), 13 P5 (in), 14 Q5 (in), 15 P6 (in), 16 Q6 (in), 17 P7 (in), 18 Q7 (in), 19 ~{P=Q} (out), 20 VCC (power)

## SN74HC4020D
designator U?
14-Bit Asynchronous Binary Counters, D0016A, TUBE; Generic Part Number: SN74HC4020; Manufacturer: Texas Instruments; PartNumber: SN74HC4020D; VCC(Min)(V): 2; VCC(Max)(V): 6; Output Type: CMOS; Inputs: 1; ICC @ Nom Voltage(Max)(mA): 0.08; Input Type: LVTTL/CMOS; Bits(#): 14; F @ Nom Voltage(Max)(Mhz): 28; Rating: Catalog; Technology Family: HC; Voltage(Nom)(V): 3.3,5; Schmitt Trigger: No; Output Drive (IOL/IOH)(Max)(mA): 5.2/-5.2; tpd @ Nom Voltage(Max)(ns): 32; DatasheetVersion: SCLS158E; PackageReference: D0016A; Supplier 1: Mouser; Supplier Part Number 1: 595-SN74HC4020D; Supplier 2: Digi-Key; Supplier Part Number 2: 296-8320-5-ND; Function: Counter; Operating Temperature Range(C): -40 to 85; Type: Binary; Code_JEDEC: MS-012 variation AC; ComponentLink1Description: Manufacturer URL; ComponentLink1URL: http://www.ti.com/; ComponentLink2Description: Datasheet; ComponentLink2URL: http://www.ti.com/lit/ds/symlink/sn74hc4020.pdf; ComponentLink3Description: Package Specification; ComponentLink3URL: http://www.ti.com/lit/ml/mpds178g/mpds178g.pdf
footprint D0016A_N (SOIC, 16-Leads, Body 10x4mm, Pitch 1.27mm, IPC Medium Density)
footprint D0016A_M (SOIC, 16-Leads, Body 10x4mm, Pitch 1.27mm, IPC Low Density)
footprint D0016A_L (SOIC, 16-Leads, Body 10x4mm, Pitch 1.27mm, IPC High Density)
pins: 1 QL (out), 2 QF (out), 3 QE (out), 4 QG (out), 5 QD (out), 6 QC (out), 7 QB (out), 8 GND (power), 9 QA (out), 10 CLK (in), 11 CLR (in), 12 QI (out), 13 QH (out), 14 QJ (out), 15 QK (out), 16 VCC (power)

## SN74HC4020DR
designator U?
14-Bit Asynchronous Binary Counters, D0016A, LARGE T&R; Generic Part Number: SN74HC4020; Manufacturer: Texas Instruments; PartNumber: SN74HC4020DR; VCC(Min)(V): 2; VCC(Max)(V): 6; Output Type: CMOS; Inputs: 1; ICC @ Nom Voltage(Max)(mA): 0.08; Input Type: LVTTL/CMOS; Bits(#): 14; F @ Nom Voltage(Max)(Mhz): 28; Rating: Catalog; Technology Family: HC; Voltage(Nom)(V): 3.3,5; Schmitt Trigger: No; Output Drive (IOL/IOH)(Max)(mA): 5.2/-5.2; tpd @ Nom Voltage(Max)(ns): 32; DatasheetVersion: SCLS158E; PackageReference: D0016A; Supplier 1: Mouser; Supplier Part Number 1: 595-SN74HC4020DR; Supplier 2: Digi-Key; Supplier Part Number 2: 296-26479-2-ND; Supplier 3: Digi-Key; Supplier Part Number 3: 296-26479-1-ND; Supplier 4: Digi-Key; Supplier Part Number 4: 296-26479-6-ND; Function: Counter; Operating Temperature Range(C): -40 to 85; Type: Binary; Code_JEDEC: MS-012 variation AC; ComponentLink1Description: Manufacturer URL; ComponentLink1URL: http://www.ti.com/; ComponentLink2Description: Datasheet; ComponentLink2URL: http://www.ti.com/lit/ds/symlink/sn74hc4020.pdf; ComponentLink3Description: Package Specification; ComponentLink3URL: http://www.ti.com/lit/ml/mpds178g/mpds178g.pdf
footprint D0016A_N (SOIC, 16-Leads, Body 10x4mm, Pitch 1.27mm, IPC Medium Density)
footprint D0016A_M (SOIC, 16-Leads, Body 10x4mm, Pitch 1.27mm, IPC Low Density)
footprint D0016A_L (SOIC, 16-Leads, Body 10x4mm, Pitch 1.27mm, IPC High Density)
pins: 1 QL (out), 2 QF (out), 3 QE (out), 4 QG (out), 5 QD (out), 6 QC (out), 7 QB (out), 8 GND (power), 9 QA (out), 10 CLK (in), 11 CLR (in), 12 QI (out), 13 QH (out), 14 QJ (out), 15 QK (out), 16 VCC (power)

## SN74HC4020DT
designator U?
14-Bit Asynchronous Binary Counters, D0016A, SMALL T&R; Generic Part Number: SN74HC4020; Manufacturer: Texas Instruments; PartNumber: SN74HC4020DT; VCC(Min)(V): 2; VCC(Max)(V): 6; Output Type: CMOS; Inputs: 1; ICC @ Nom Voltage(Max)(mA): 0.08; Input Type: LVTTL/CMOS; Bits(#): 14; F @ Nom Voltage(Max)(Mhz): 28; Rating: Catalog; Technology Family: HC; Voltage(Nom)(V): 3.3,5; Schmitt Trigger: No; Output Drive (IOL/IOH)(Max)(mA): 5.2/-5.2; tpd @ Nom Voltage(Max)(ns): 32; DatasheetVersion: SCLS158E; PackageReference: D0016A; Supplier 1: Mouser; Supplier Part Number 1: 595-SN74HC4020DT; Supplier 2: Digi-Key; Supplier Part Number 2: SN74HC4020DT-ND; Function: Counter; Operating Temperature Range(C): -40 to 85; Type: Binary; Code_JEDEC: MS-012 variation AC; ComponentLink1Description: Manufacturer URL; ComponentLink1URL: http://www.ti.com/; ComponentLink2Description: Datasheet; ComponentLink2URL: http://www.ti.com/lit/ds/symlink/sn74hc4020.pdf; ComponentLink3Description: Package Specification; ComponentLink3URL: http://www.ti.com/lit/ml/mpds178g/mpds178g.pdf
footprint D0016A_N (SOIC, 16-Leads, Body 10x4mm, Pitch 1.27mm, IPC Medium Density)
footprint D0016A_M (SOIC, 16-Leads, Body 10x4mm, Pitch 1.27mm, IPC Low Density)
footprint D0016A_L (SOIC, 16-Leads, Body 10x4mm, Pitch 1.27mm, IPC High Density)
pins: 1 QL (out), 2 QF (out), 3 QE (out), 4 QG (out), 5 QD (out), 6 QC (out), 7 QB (out), 8 GND (power), 9 QA (out), 10 CLK (in), 11 CLR (in), 12 QI (out), 13 QH (out), 14 QJ (out), 15 QK (out), 16 VCC (power)

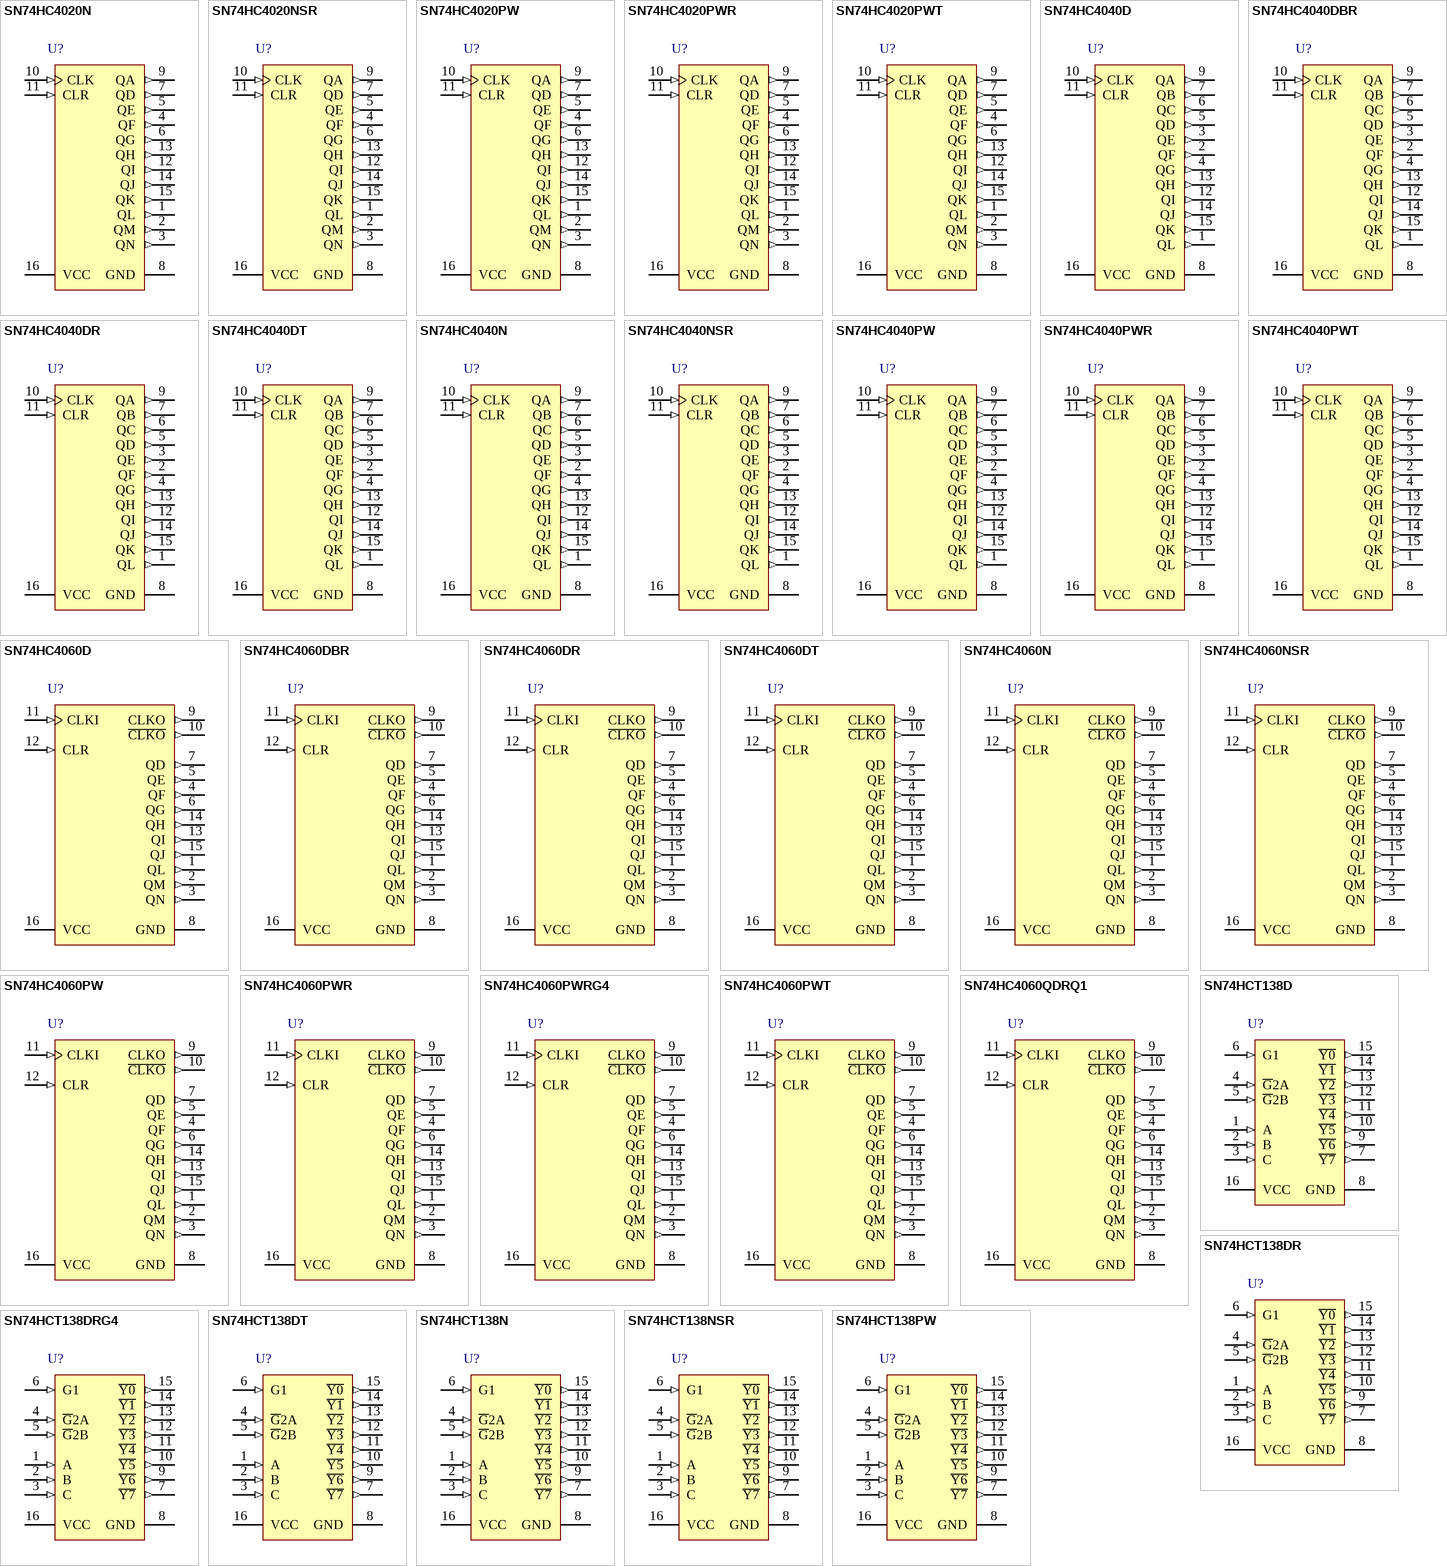
[diagram p65: symbols SN74HC4020N to SN74HCT138PW]

## SN74HC4020N
designator U?
14-Bit Asynchronous Binary Counters, N0016A, TUBE; Generic Part Number: SN74HC4020; Manufacturer: Texas Instruments; PartNumber: SN74HC4020N; VCC(Min)(V): 2; VCC(Max)(V): 6; Output Type: CMOS; Inputs: 1; ICC @ Nom Voltage(Max)(mA): 0.08; Input Type: LVTTL/CMOS; Bits(#): 14; F @ Nom Voltage(Max)(Mhz): 28; Rating: Catalog; Technology Family: HC; Voltage(Nom)(V): 3.3,5; Schmitt Trigger: No; Output Drive (IOL/IOH)(Max)(mA): 5.2/-5.2; tpd @ Nom Voltage(Max)(ns): 32; DatasheetVersion: SCLS158E; PackageReference: N0016A; Supplier 1: Mouser; Supplier Part Number 1: 595-SN74HC4020N; Supplier 2: Digi-Key; Supplier Part Number 2: 296-8321-5-ND; Function: Counter; Operating Temperature Range(C): -40 to 85; Type: Binary; Code_JEDEC: MS-001; ComponentLink1Description: Manufacturer URL; ComponentLink1URL: http://www.ti.com/; ComponentLink2Description: Datasheet; ComponentLink2URL: http://www.ti.com/lit/ds/symlink/sn74hc4020.pdf; ComponentLink3Description: Package Specification; ComponentLink3URL: http://www.ti.com/lit/ml/mpdi002c/mpdi002c.pdf
footprint N0016A (DIP, 16-Leads, Body 19.7x6.6mm, Pitch 2.54mm)
pins: 1 QL (out), 2 QM (out), 3 QN (out), 4 QF (out), 5 QE (out), 6 QG (out), 7 QD (out), 8 GND (power), 9 QA (out), 10 CLK (in), 11 CLR (in), 12 QI (out), 13 QH (out), 14 QJ (out), 15 QK (out), 16 VCC (power)

## SN74HC4020NSR
designator U?
14-Bit Asynchronous Binary Counters, NS0016A, LARGE T&R; Generic Part Number: SN74HC4020; Manufacturer: Texas Instruments; PartNumber: SN74HC4020NSR; VCC(Min)(V): 2; VCC(Max)(V): 6; Output Type: CMOS; Inputs: 1; ICC @ Nom Voltage(Max)(mA): 0.08; Input Type: LVTTL/CMOS; Bits(#): 14; F @ Nom Voltage(Max)(Mhz): 28; Rating: Catalog; Technology Family: HC; Voltage(Nom)(V): 3.3,5; Schmitt Trigger: No; Output Drive (IOL/IOH)(Max)(mA): 5.2/-5.2; tpd @ Nom Voltage(Max)(ns): 32; DatasheetVersion: SCLS158E; PackageReference: NS0016A; Supplier 1: Mouser; Supplier Part Number 1: 595-SN74HC4020NSR; Supplier 2: Digi-Key; Supplier Part Number 2: 296-29188-2-ND; Supplier 3: Digi-Key; Supplier Part Number 3: 296-29188-1-ND; Supplier 4: Digi-Key; Supplier Part Number 4: 296-29188-6-ND; Function: Counter; Operating Temperature Range(C): -40 to 85; Type: Binary; ComponentLink1Description: Manufacturer URL; ComponentLink1URL: http://www.ti.com/; ComponentLink2Description: Datasheet; ComponentLink2URL: http://www.ti.com/lit/ds/symlink/sn74hc4020.pdf; ComponentLink3Description: Package Specification; ComponentLink3URL: http://www.ti.com/lit/ml/msop002a/msop002a.pdf
footprint NS0016A_N (SOIC,16-Leads,Body 10.5x5.6mm,Pitch 1.27mm,IPC Medium Density)
footprint NS0016A_M (SOIC,16-Leads,Body 10.5x5.6mm,Pitch 1.27mm,IPC Low Density)
footprint NS0016A_L (SOIC,16-Leads,Body 10.5x5.6mm,Pitch 1.27mm,IPC High Density)
pins: 1 QL (out), 2 QM (out), 3 QN (out), 4 QF (out), 5 QE (out), 6 QG (out), 7 QD (out), 8 GND (power), 9 QA (out), 10 CLK (in), 11 CLR (in), 12 QI (out), 13 QH (out), 14 QJ (out), 15 QK (out), 16 VCC (power)

## SN74HC4020PW
designator U?
14-Bit Asynchronous Binary Counters, PW0016A, TUBE; Generic Part Number: SN74HC4020; Manufacturer: Texas Instruments; PartNumber: SN74HC4020PW; VCC(Min)(V): 2; VCC(Max)(V): 6; Output Type: CMOS; Inputs: 1; ICC @ Nom Voltage(Max)(mA): 0.08; Input Type: LVTTL/CMOS; Bits(#): 14; F @ Nom Voltage(Max)(Mhz): 28; Rating: Catalog; Technology Family: HC; Voltage(Nom)(V): 3.3,5; Schmitt Trigger: No; Output Drive (IOL/IOH)(Max)(mA): 5.2/-5.2; tpd @ Nom Voltage(Max)(ns): 32; DatasheetVersion: SCLS158E; PackageReference: PW0016A; Supplier 1: Mouser; Supplier Part Number 1: 595-SN74HC4020PW; Supplier 2: Digi-Key; Supplier Part Number 2: 296-33935-5-ND; Function: Counter; Operating Temperature Range(C): -40 to 85; Type: Binary; Code_JEDEC: MO-153; ComponentLink1Description: Manufacturer URL; ComponentLink1URL: http://www.ti.com/; ComponentLink2Description: Datasheet; ComponentLink2URL: http://www.ti.com/lit/ds/symlink/sn74hc4020.pdf; ComponentLink3Description: Package Specification; ComponentLink3URL: http://www.ti.com/lit/ml/mpds361/mpds361.pdf
footprint PW0016A_N (SOP, 16-Leads, Body 5.1x4.5mm, Pitch 0.65mm, IPC Medium Density)
footprint PW0016A_M (SOP, 16-Leads, Body 5.1x4.5mm, Pitch 0.65mm, IPC Low Density)
footprint PW0016A_L (SOP, 16-Leads, Body 5.1x4.5mm, Pitch 0.65mm, IPC High Density)
pins: 1 QL (out), 2 QM (out), 3 QN (out), 4 QF (out), 5 QE (out), 6 QG (out), 7 QD (out), 8 GND (power), 9 QA (out), 10 CLK (in), 11 CLR (in), 12 QI (out), 13 QH (out), 14 QJ (out), 15 QK (out), 16 VCC (power)

## SN74HC4020PWR
designator U?
14-Bit Asynchronous Binary Counters, PW0016A, LARGE T&R; Generic Part Number: SN74HC4020; Manufacturer: Texas Instruments; PartNumber: SN74HC4020PWR; VCC(Min)(V): 2; VCC(Max)(V): 6; Output Type: CMOS; Inputs: 1; ICC @ Nom Voltage(Max)(mA): 0.08; Input Type: LVTTL/CMOS; Bits(#): 14; F @ Nom Voltage(Max)(Mhz): 28; Rating: Catalog; Technology Family: HC; Voltage(Nom)(V): 3.3,5; Schmitt Trigger: No; Output Drive (IOL/IOH)(Max)(mA): 5.2/-5.2; tpd @ Nom Voltage(Max)(ns): 32; DatasheetVersion: SCLS158E; PackageReference: PW0016A; Supplier 1: Mouser; Supplier Part Number 1: 595-SN74HC4020PWR; Supplier 2: Digi-Key; Supplier Part Number 2: 296-31810-2-ND; Supplier 3: Digi-Key; Supplier Part Number 3: 296-31810-1-ND; Supplier 4: Digi-Key; Supplier Part Number 4: 296-31810-6-ND; Function: Counter; Operating Temperature Range(C): -40 to 85; Type: Binary; Code_JEDEC: MO-153; ComponentLink1Description: Manufacturer URL; ComponentLink1URL: http://www.ti.com/; ComponentLink2Description: Datasheet; ComponentLink2URL: http://www.ti.com/lit/ds/symlink/sn74hc4020.pdf; ComponentLink3Description: Package Specification; ComponentLink3URL: http://www.ti.com/lit/ml/mpds361/mpds361.pdf
footprint PW0016A_N (SOP, 16-Leads, Body 5.1x4.5mm, Pitch 0.65mm, IPC Medium Density)
footprint PW0016A_M (SOP, 16-Leads, Body 5.1x4.5mm, Pitch 0.65mm, IPC Low Density)
footprint PW0016A_L (SOP, 16-Leads, Body 5.1x4.5mm, Pitch 0.65mm, IPC High Density)
pins: 1 QL (out), 2 QM (out), 3 QN (out), 4 QF (out), 5 QE (out), 6 QG (out), 7 QD (out), 8 GND (power), 9 QA (out), 10 CLK (in), 11 CLR (in), 12 QI (out), 13 QH (out), 14 QJ (out), 15 QK (out), 16 VCC (power)

## SN74HC4020PWT
designator U?
14-Bit Asynchronous Binary Counters, PW0016A, SMALL T&R; Generic Part Number: SN74HC4020; Manufacturer: Texas Instruments; PartNumber: SN74HC4020PWT; VCC(Min)(V): 2; VCC(Max)(V): 6; Output Type: CMOS; Inputs: 1; ICC @ Nom Voltage(Max)(mA): 0.08; Input Type: LVTTL/CMOS; Bits(#): 14; F @ Nom Voltage(Max)(Mhz): 28; Rating: Catalog; Technology Family: HC; Voltage(Nom)(V): 3.3,5; Schmitt Trigger: No; Output Drive (IOL/IOH)(Max)(mA): 5.2/-5.2; tpd @ Nom Voltage(Max)(ns): 32; DatasheetVersion: SCLS158E; PackageReference: PW0016A; Supplier 1: Mouser; Supplier Part Number 1: 595-SN74HC4020PWT; Supplier 2: Digi-Key; Supplier Part Number 2: SN74HC4020PWT-ND; Function: Counter; Operating Temperature Range(C): -40 to 85; Type: Binary; Code_JEDEC: MO-153; ComponentLink1Description: Manufacturer URL; ComponentLink1URL: http://www.ti.com/; ComponentLink2Description: Datasheet; ComponentLink2URL: http://www.ti.com/lit/ds/symlink/sn74hc4020.pdf; ComponentLink3Description: Package Specification; ComponentLink3URL: http://www.ti.com/lit/ml/mpds361/mpds361.pdf
footprint PW0016A_N (SOP, 16-Leads, Body 5.1x4.5mm, Pitch 0.65mm, IPC Medium Density)
footprint PW0016A_M (SOP, 16-Leads, Body 5.1x4.5mm, Pitch 0.65mm, IPC Low Density)
footprint PW0016A_L (SOP, 16-Leads, Body 5.1x4.5mm, Pitch 0.65mm, IPC High Density)
pins: 1 QL (out), 2 QM (out), 3 QN (out), 4 QF (out), 5 QE (out), 6 QG (out), 7 QD (out), 8 GND (power), 9 QA (out), 10 CLK (in), 11 CLR (in), 12 QI (out), 13 QH (out), 14 QJ (out), 15 QK (out), 16 VCC (power)